# Altium schematic symbol library PZEM-004T.SchLib: 21 symbols
Pins are listed as number, name and electrical type; pins without a type are passive.

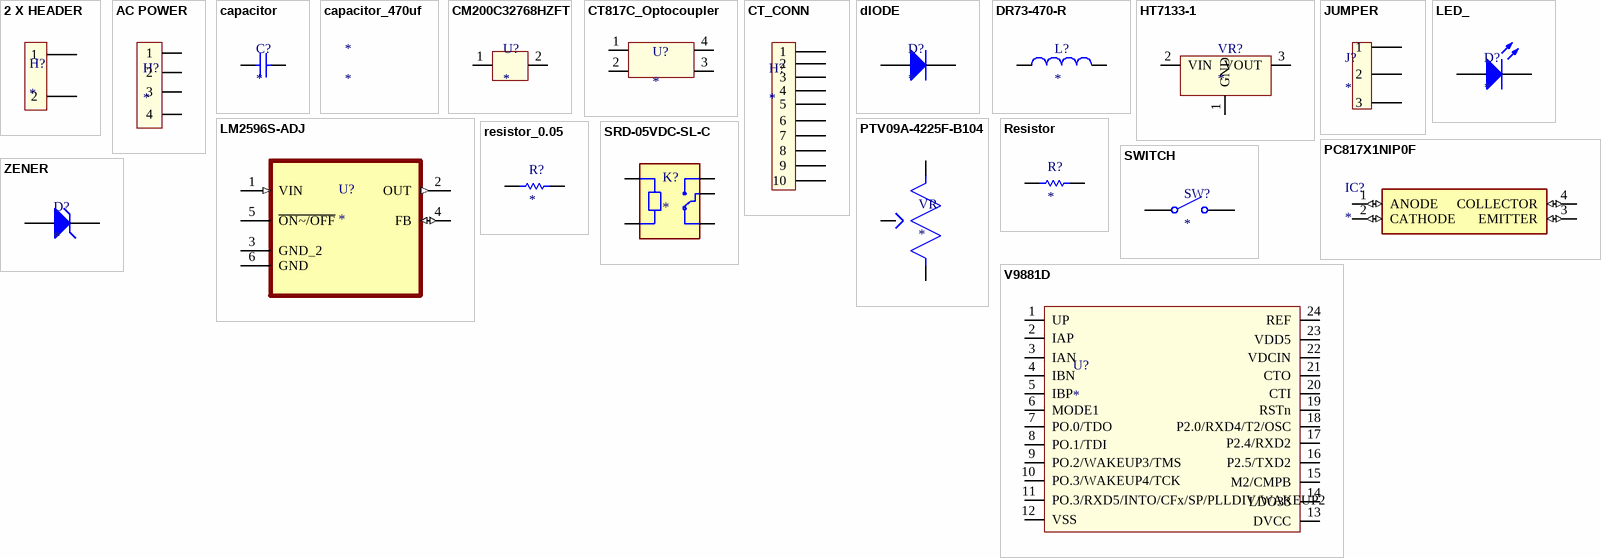
[diagram p0: symbols 2 X HEADER to ZENER]

## 2 X HEADER
designator H?
2 X PINS POWER HEADER FOR INPUT 12 VOLT POWER
pins: 1, 2

## AC POWER
designator H?
4 X PIN HEADER FOR THE VOLTAGE CONNECTOR OF 3 PZEM
pins: 1, 2, 3, 4

## capacitor
designator C?
CAP CER 10UF 6.3V X5R 0402; Manufacturer: Murata Electronics; Manufacturer Product Number: GRM155R60J106ME47D; Supplier: DigiKey; Supplier part number: 490-13239-1-ND
pins: 1, 2

## capacitor_470uf
designator *
Manufacturer: Rubycon; Manufacturer Product Number: 16ZLJ470MTA8X11.5; supplier: DigiKey

## CM200C32768HZFT
designator U?
32.768 kHz ±5ppm Crystal 12.5pF 50 kOhms 4-SOJ, 5.50mm pitch; Manufacturer: Citizen Finedevice Co Ltd; Manufacturer Product Number: CM200C32768HZFT; supplier: DigiKey; supplier Product Number: 300-8742-1-ND
pins: 1, 2

## CT817C_Optocoupler
designator U?
35V 5kV 50mA 100mV@1mA,20mA 1 6V 1.24V DC SOP-4-2.54mm Transistor, Photovoltaic Output Optoisolators ROHS; Manufacturer: CT Micro International; Manufacturer product number: CT817C(SL)(T1)-H
pins: 1 ANODE, 2 CATHODE, 3 EMITTER, 4 COLLECTOR

## CT_CONN
designator H?
6 X PIN HEADER FOR THE CURRENT TRANSFORMER CONNECTIONS
pins: 1, 2, 3, 4, 5, 6, 7, 8, 9, 10

## dIODE
designator D?
pins: 1 A, 2 K

## DR73-470-R
designator L?
Fixed Inductors 47uH 1.14A 0.241ohms; MF: Coiltronics / Eaton; MP: DR73-470-R; SnapEDA_Link: https://www.snapeda.com/parts/DR73-470-R/Coiltronics/view-part/?ref=snap; Package: NON-STANDARD Eaton; Value: *; Check_prices: https://www.snapeda.com/parts/DR73-470-R/Coiltronics/view-part/?ref=eda
footprint INDM7676X355N
pins: 1, 2

## HT7133-1
designator VR?
Linear Voltage Regulator IC Positive Fixed 1 Output 100mA SOT-89-3; Manufacturer: UMW; Manufacturer Product Number: HT7133-1; supplier: DigiKey; supplier product number: 4518-HT7133-1CT-ND
pins: 1 GND, 2 VIN, 3 VOUT

## JUMPER
designator J?
pins: 1, 2, 3

## LED_
designator D?
LED GREEN CLEAR 0805 SMD; Manufacturer: Lumex Opto/Components Inc.; Manufacturer Product Number: SML-LX0805UPGC-TR; supplier: DigiKey; supplier product number: 67-1640-2-ND
pins: 1 A, 2 K

## LM2596S-ADJ
designator U?
Buck Switching Regulator IC Positive Adjustable 1.2V 1 Output 3A TO-263-6, DÂ²Pak (5 Leads + Tab), TO-263BA; MF: UMW; MP: LM2596S-ADJ; SnapEDA_Link: https://www.snapeda.com/parts/LM2596S-ADJ/Umwelt+Sensor+Teknik/view-part/?ref=snap; Package: None; Value: *; Check_prices: https://www.snapeda.com/parts/LM2596S-ADJ/Umwelt+Sensor+Teknik/view-part/?ref=eda
footprint TO170P1435X465-6N
pins: 1 VIN (in), 2 OUT (out), 3 GND_2, 4 FB (io), 5 ~{ON~/OFF}, 6 GND

## PC817X1NIP0F
designator IC?
Optoisolator Transistor Output 5000Vrms 1 Channel 4-SMD; MF: Sharp Microelectronics; MP: PC817X1NIP0F; SnapEDA_Link: https://www.snapeda.com/parts/PC817X1NIP0F/Sharp+Microelectronics/view-part/?ref=snap; Package: SMD-4 Sharp Microelectronics; Value: *; Check_prices: https://www.snapeda.com/parts/PC817X1NIP0F/Sharp+Microelectronics/view-part/?ref=eda
footprint SOP254P975X460-4N
pins: 1 ANODE (io), 2 CATHODE (io), 3 EMITTER (io), 4 COLLECTOR (io)

## PTV09A-4225F-B104
designator VR
100k Ohm 1 Gang Linear Through Hole, Snap In Potentiometer Detent 1 Kierros Carbon 0.05W, 1/20W PC Pins, Board Locks; MP: PTV09A-4225F-B104; MF: Bourns; Value: *; Package: None; Price: None; Availability: Unavailable; SnapEDA_Link: https://www.snapeda.com/parts/PTV09A-4225F-B104/Bourns/view-part/1448300/?ref=snap
footprint PTV09
pins: 1 (io), 2 (io), 3 (io)

## Resistor
designator R?
RES 10K OHM 5% 1/4W 1206; Manufacturer: TE Connectivity Passive Product; Manufacturer Product Number: CRGCQ1206J10K; Supplier: DigiKey; Supplier part number: A130183CT-ND
footprint Resistor_CR05
pins: 1, 2

## resistor_0.05
designator R?
50 mOhms ±1% 5W Through Hole Resistor Axial Current Sense, Non-Inductive Metal Element; Manufacturer: Ohmite; Manufacturer Product Number: 15FR050E; supplier: DigiKey; supplier product number: 15FR050E-ND
pins: 1, 2

## SRD-05VDC-SL-C
designator K?
5V Trigger Relay Module For Arduino And Raspberry Pi 5V Trigger Relay Module For Arduino And Raspberry Pi; MF: Songle Relay; MP: SRD-05VDC-SL-C; Check_prices: https://www.snapeda.com/parts/SRD-05VDC-SL-C/Songle+Relay/view-part/?ref=eda; Value: *; Availability: Not in stock; Price: None; Package: NON STANDARD-5 Songle Relay; SnapEDA_Link: https://www.snapeda.com/parts/SRD-05VDC-SL-C/Songle+Relay/view-part/?ref=snap
footprint RELAY_SRD-05VDC-SL-C
pins: A1, A2, COM, NC, NO

## SWITCH
designator SW?
pins: 1, 2

## V9881D
designator U?
V9881D SSOP24 Three-phase Multifunctional Metering Chip Energy Metering V9881
pins: 1 UP, 2 IAP, 3 IAN, 4 IBN, 5 IBP, 6 MODE1, 7 PO.0/TDO, 8 PO.1/TDI, 9 PO.2/WAKEUP3/TMS, 10 PO.3/WAKEUP4/TCK, 11 PO.3/RXD5/INTO/CFx/SP/PLLDIV/WAKEUP2, 12 VSS, 13 DVCC, 14 LDO33, 15 M2/CMPB, 16 P2.5/TXD2, 17 P2.4/RXD2, 18 P2.0/RXD4/T2/OSC, 19 RSTn, 20 CTI, 21 CTO, 22 VDCIN, 23 VDD5, 24 REF

## ZENER
designator D?
Zener Diode 12 V 1 W ±5% Surface Mount SMA; Manufacturer: Diodes Incorporated; Manufacturer Product Number: SMAZ12-13-F; supplier: DigiKey; supplier Product Number: SMAZ12-FDICT-ND
pins: 1 A, 2 K